# EAGLE library part LEVEL-CONVERTER-4CH (library FansElectronics-Modul)
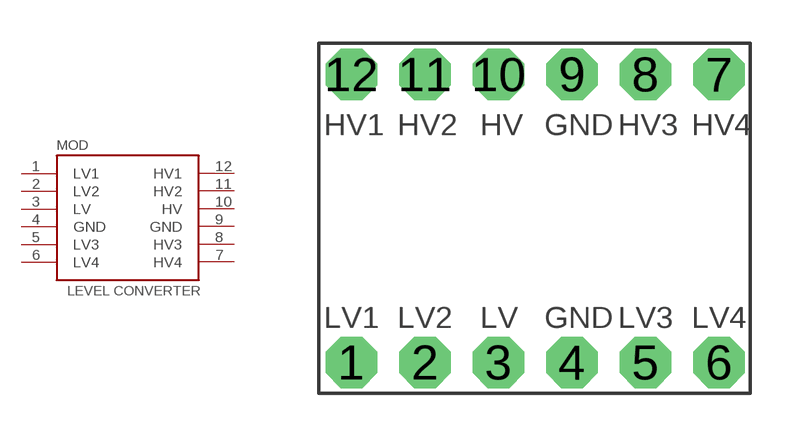
[diagram p17: symbol with the pads of LOGIC-CONVERTER-4CH; footprint LOGIC-CONVERTER-4CH]

Designator prefix MOD

## LEVEL-CONVERTER-4CH  [LOGIC-CONVERTER-4CH]
1  LV1
2  LV2
3  LV  pwr
4  GND  pwr
5  LV3
6  LV4
7  HV4
8  HV3
9  GND  pwr
10  HV  pwr
11  HV2
12  HV1

## Footprint LOGIC-CONVERTER-4CH (pad centres in mm)
drill 1 pad 1.778 octagon: 1 -5.08,-5.95; 2 -2.54,-5.95; 3 0,-5.95; 4 2.54,-5.95; 5 5.08,-5.95; 6 7.62,-5.95; 7 7.62,4.01; 8 5.08,4.01; 9 2.54,4.01; 10 0,4.01; 11 -2.54,4.01; 12 -5.08,4.01